# Altium footprint library lianchen_lib.PcbLib: 233 footprints (part 10 of 15)
Each footprint in its own frame and in the unit in brackets; x right, y up, seen from the top. Pads: shape width x height; smd on the part's side, far side on the other; paste and mask are expansions set on the pad; w line width, h text height; cw(c..) or ccw(c..) is an arc to the next point about the centre after c.
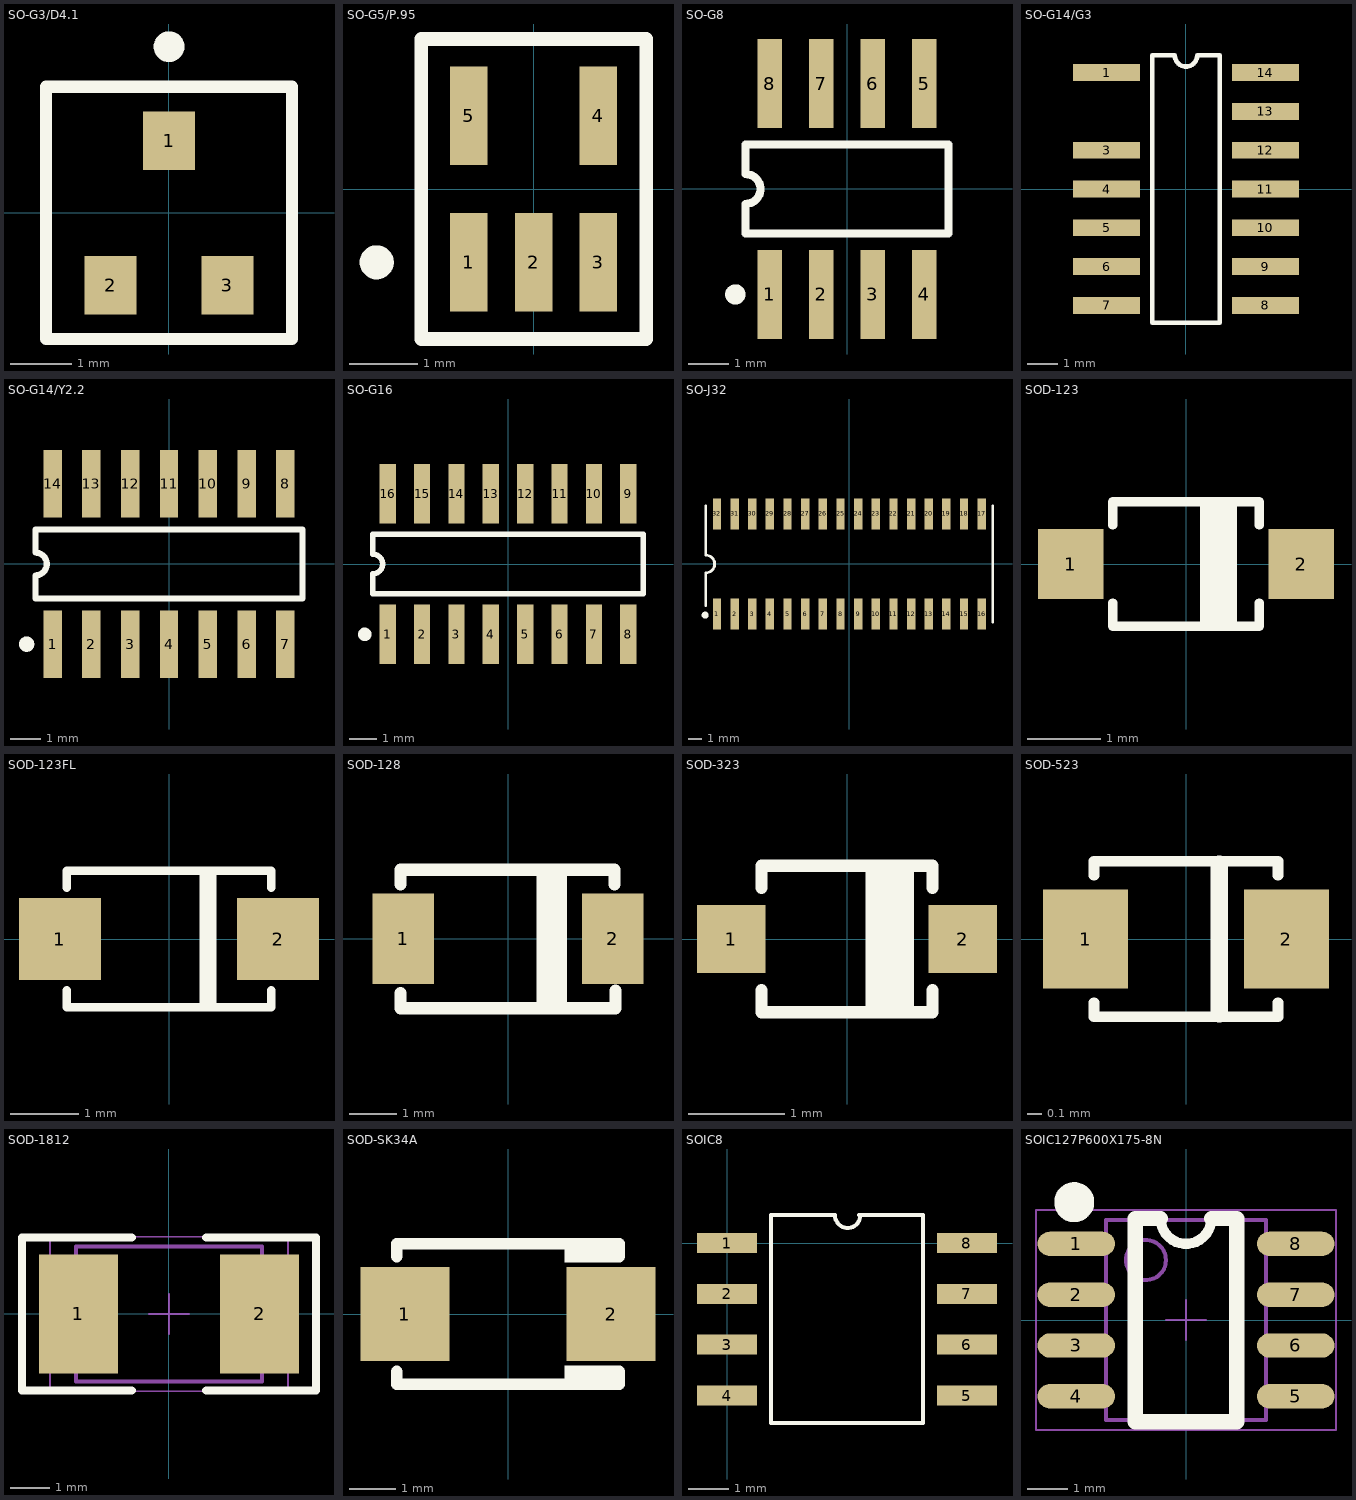
[diagram p9: the footprints below, top view; thin cyan lines are the x and y axes]

## SO-G3/D4.1 [mm]
pads (3):
  rect 0.85x0.95 smd: 1(0,1.175) 2(-0.95,-1.175) 3(0.95,-1.175)
Top Overlay:
  circle w0.25: c0,2.7 r0.125
  lines w0.2: -2,-2.05 2,-2.05 2,2.05 -2,2.05 -2,-2.05

## SO-G5/P.95 [mm]
pads (5):
  rect 0.55x1.45 smd: 1(-0.954,-1.07) 2(-0.004,-1.07) 3(0.946,-1.07) 4(0.946,1.08) 5(-0.954,1.08)
Top Overlay:
  circle w0.25: c-2.304,-1.07 r0.125
  lines w0.2: -1.654,-2.195 -1.654,2.205 1.646,2.205 1.646,-2.195 -1.654,-2.195
3D body: height 0.89, standoff 0, extent -1.27,-1.778 1.27,1.778

## SO-G8 [mm]
pads (8):
  rect 0.6x2.2 smd: 1(-1.905,-2.6) 2(-0.635,-2.6) 3(0.635,-2.6) 4(1.905,-2.6) 5(1.905,2.6) 6(0.635,2.6) 7(-0.635,2.6) 8(-1.905,2.6)
Top Overlay:
  circle w0.25: c-2.755,-2.6 r0.125
  lines w0.2: -2.5,-1.1 -2.5,-0.367 ccw(c-2.5,0) -2.5,0.367 -2.5,1.1 2.5,1.1 2.5,-1.1 -2.5,-1.1

## SO-G14/G3 [mm]
pads (13):
  rect 2.2x0.55 smd: 1(-2.6,3.81) 3(-2.6,1.27) 4(-2.6,0) 5(-2.6,-1.27) 6(-2.6,-2.54) 7(-2.6,-3.81) 8(2.6,-3.81) 9(2.6,-2.54) 10(2.6,-1.27) 11(2.6,0) 12(2.6,1.27) 13(2.6,2.54) 14(2.6,3.81)
Top Overlay:
  lines w0.152: -1.1,-4.375 1.1,-4.375 1.1,4.375 0.367,4.375 cw(c0,4.375) -0.366,4.375 -1.1,4.375 -1.1,-4.375

## SO-G14/Y2.2 [mm]
pads (14):
  rect 0.6x2.2 smd: 1(-3.81,-2.625) 2(-2.54,-2.625) 3(-1.27,-2.625) 4(0,-2.625) 5(1.27,-2.625) 6(2.54,-2.625) 7(3.81,-2.625) 8(3.81,2.625) 9(2.54,2.625) 10(1.27,2.625) 11(0,2.625) 12(-1.27,2.625) 13(-2.54,2.625) 14(-3.81,2.625)
Top Overlay:
  circle w0.25: c-4.66,-2.625 r0.125
  lines w0.2: -4.375,-1.125 4.375,-1.125 4.375,1.125 -4.375,1.125 -4.375,0.375 cw(c-4.375,0) -4.375,-0.375 -4.375,-1.125

## SO-G16 [mm]
pads (16):
  rect 0.6x2.2 smd: 1(-4.445,-2.6) 2(-3.175,-2.6) 3(-1.905,-2.6) 4(-0.635,-2.6) 5(0.635,-2.6) 6(1.905,-2.6) 7(3.175,-2.6) 8(4.445,-2.6) 9(4.445,2.6) 10(3.175,2.6) 11(1.905,2.6) 12(0.635,2.6) 13(-0.635,2.6) 14(-1.905,2.6) 15(-3.175,2.6) 16(-4.445,2.6)
Top Overlay:
  circle w0.25: c-5.295,-2.6 r0.125
  lines w0.2: -5,-1.1 5,-1.1 5,1.1 -5,1.1 -5,0.367 cw(c-5,0) -5,-0.367 -5,-1.1

## SO-J32 [mm]
pads (32):
  rect 0.6x2.2 smd: 1(-9.525,-3.6) 2(-8.255,-3.6) 3(-6.985,-3.6) 4(-5.715,-3.6) 5(-4.445,-3.6) 6(-3.175,-3.6) 7(-1.905,-3.6) 8(-0.635,-3.6) 9(0.635,-3.6) 10(1.905,-3.6) 11(3.175,-3.6) 12(4.445,-3.6) 13(5.715,-3.6) 14(6.985,-3.6) 15(8.255,-3.6) 16(9.525,-3.6) 17(9.525,3.6) 18(8.255,3.6) 19(6.985,3.6) 20(5.715,3.6) 21(4.445,3.6) 22(3.175,3.6) 23(1.905,3.6) 24(0.635,3.6) 25(-0.635,3.6) 26(-1.905,3.6) 27(-3.175,3.6) 28(-4.445,3.6) 29(-5.715,3.6) 30(-6.985,3.6) 31(-8.255,3.6) 32(-9.525,3.6)
Top Overlay:
  circle w0.25: c-10.375,-3.676 r0.125
  lines w0.2: -10.325,-2.996 -10.325,-0.635 ccw(c-10.325,0) -10.325,0.635 -10.325,4.191 ; 10.325,-4.191 10.325,4.191

## SOD-123 [mm]
height 1.35
pads (2):
  rect 0.9x0.95 smd: 1(-1.575,0) 2(1.575,0)
Top Overlay:
  lines w0.127: -1,-0.533 -1,-0.85 1,-0.85 1,-0.533 ; -1,0.533 -1,0.85 1,0.85 1,0.533 ; 0.254,-0.85 0.254,0.85 ; 0.381,-0.85 0.381,0.85 ; 0.508,-0.85 0.508,0.85 ; 0.635,-0.85 0.635,0.85

## SOD-123FL [mm]
height 1.1
pads (2):
  rect 1.2x1.2 smd: 1(-1.6,0) 2(1.6,0)
Top Overlay:
  lines w0.127: -1.5,-0.75 -1.5,-1 1.5,-1 1.5,-0.75 ; -1.5,0.75 -1.5,1 1.5,1 1.5,0.75 ; 0.508,-1 0.508,1 ; 0.635,-1 0.635,1

## SOD-128 [mm]
height 1.1
pads (2):
  rect 1.3x1.9 smd: 1(-2.2,0) 2(2.2,0)
Top Overlay:
  lines w0.254: -2.26,-1.143 -2.26,-1.46 2.26,-1.46 ; -2.26,1.143 -2.26,1.45 2.24,1.45 2.24,1.143 ; 0.73,-1.36 0.73,1.38 ; 0.73,-0.01 0.73,0.01 ; 0.857,-1.36 0.857,1.38 ; 1.111,-1.36 1.111,1.38 ; 2.26,-1.397 2.26,-1.09

## SOD-323 [mil]
height 38
pads (2):
  rect 28x28 smd: 1(-47.5,0) 2(47.5,0)
Top Overlay:
  lines w5: -35,-21 -35,-30 35,-30 35,-21 ; -35,21 -35,30 35,30 35,21 ; 10,-30 10,30 ; 15,-30 15,30 ; 20,-30 20,30 ; 25,-30 25,30
3D body "SOD-323.STEP": height 39.37, standoff 0, extent -51,-26 51.36,25.18

## SOD-523 [mm]
pads (2):
  rect 0.6x0.7 smd: 1(-0.71,0) 2(0.71,0)
Top Overlay:
  lines w0.076: -0.65,-0.45 -0.65,-0.55 0.65,-0.55 0.65,-0.45 ; -0.65,0.45 -0.65,0.55 0.65,0.55 0.65,0.45
  lines w0.127: 0.235,-0.525 0.235,0.525

## SOD-1812 [mm]
height 2.032
pads (2):
  rect 2x3 smd: 1(-2.286,0) 2(2.286,0)
Top Overlay:
  lines w0.203: -3.2,1.93 -0.94,1.93 -3.708,1.93 -3.708,-1.93 -0.94,-1.93 ; 0.94,-1.93 3.708,-1.93 3.708,1.93 0.94,1.93
Mechanical 15:
  lines w0.1: -2.35,-1.7 -2.35,1.7 2.35,1.7 2.35,-1.7 -2.35,-1.7
  text "1" at -0.178,-0.356 h0.75
Mechanical 16:
  lines w0.001: -2.35,-1.7 -2.35,1.7 2.35,1.7 2.35,-1.7 -2.35,-1.7
  lines w0.05: -0.5,0 0.5,0 ; 0,-0.5 0,0.5 ; -3,-1.95 -3,1.95 3,1.95 3,-1.95 -3,-1.95

## SOD-SK34A [mil] "121025 焊盘大小及位置改动，改短 LISHIBING"
height 2
pads (2):
  rect 76x80 smd: 1(-88,0) 2(88,0)
Top Overlay:
  rectangle: 48,-60 95,-44
  rectangle: 48,44 95,60
  lines w10: -95,-49 -95,-60 95,-60 95,-49 ; -95,49 -95,60 95,60 95,49
3D body "DO-214AC.STEP": height 94.49, standoff 0, extent -91.52,-53.55 89.58,52.75

## SOIC8 [mm]
pads (8):
  rect 1.5x0.5 smd: 1(0,0) 2(0,-1.27) 3(0,-2.54) 4(0,-3.81) 5(6,-3.81) 6(6,-2.54) 7(6,-1.27) 8(6,0)
Top Overlay:
  lines w0.1: 3.3,0.7 4.9,0.7 4.9,-4.5 1.1,-4.5 1.1,0.7 2.7,0.7 ccw(c3.017,0.7) 3.335,0.7

## SOIC127P600X175-8N [mil]
height 2
pads (8):
  oval 76.06x24 smd: 1(-108.03,75) 2(-108.03,25) 3(-108.03,-25) 4(-108.03,-75) 5(108.03,-75) 6(108.03,-25) 7(108.03,25) 8(108.03,75)
Top Overlay:
  circle w23.62: c-110,116 r7.87
  lines w10: -25,100 ccw(c0,100) 25,100
  lines w15: -25,100 -50,100 -50,-100 50,-100 50,100 25,100
Mechanical 15:
  circle w3.94: c-39.37,59.06 r19.68
  lines w3.94: -78.74,-98.43 78.74,-98.43 78.74,98.43 -78.74,98.43 -78.74,-98.43
  text "1" at 17.71,-6.47 h29.53
Mechanical 16:
  lines w0.04: -78.74,-98.43 78.74,-98.43 78.74,98.43 -78.74,98.43 -78.74,-98.43
  lines w1.97: -19.68,0 19.68,0 ; 0,-19.68 0,19.68 ; -147.64,-108.27 147.64,-108.27 147.64,108.27 -147.64,108.27 -147.64,-108.27
3D body "SW3DPS-SO-8 (PIC12FXXX)-DEFAULT.STEP": height 61.02, standoff -1.97, extent -117.91,-96 117.91,96.91